# Altium schematic symbol library Limbo.SchLib: 8 symbols
Pins are listed as number, name and electrical type; pins without a type are passive.

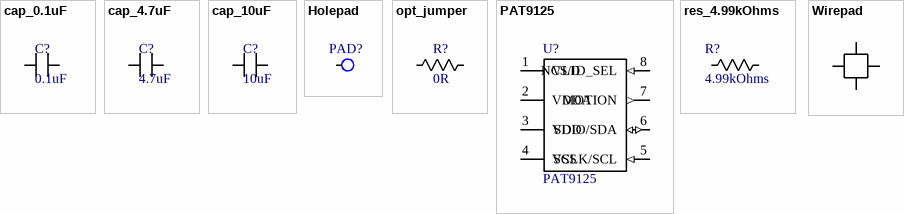
[diagram p0: symbols cap_0.1uF to Wirepad]

## cap_0.1uF
designator C?, comment 0.1uF
0.1µF ±20% 6.3V Ceramic Capacitor X7S 0204 (0510 Metric); MP: JWK105C7104MP-F; MF: Taiyo Yuden; Category 2: Ceramic Capacitors; SnapEDA_Link: https://www.snapeda.com/parts/JWK105C7104MP-F/Taiyo%20Yuden/view-part/554958/?ref=snap; Check_prices: https://www.snapeda.com/parts/JWK105C7104MP-F/Taiyo%20Yuden/view-part/554958/?ref=eda; Value: 0.1uF; Package: 0510 Taiyo Yuden; Digi-Key_Part_Number: 587-2152-1-ND; Purchase-URL: https://pricing.snapeda.com/search/part/JWK105C7104MP-F/?ref=eda; Category: Capacitors
footprint cap_0.1uF
pins: 1, 2

## cap_4.7uF
designator C?, comment 4.7uF
4.7µF ±20% 4V Ceramic Capacitor X6S 0306 (0816 Metric); MP: AWK107C6475MV-T; MF: Taiyo Yuden; Digi-Key_Part_Number: 587-5162-1-ND; Package: 0816 Taiyo Yuden; SnapEDA_Link: https://www.snapeda.com/parts/AWK107C6475MV-T/Taiyo%20Yuden/view-part/2039935/?ref=snap; Purchase-URL: https://pricing.snapeda.com/search/part/AWK107C6475MV-T/?ref=eda; Value: *; Check_prices: https://www.snapeda.com/parts/AWK107C6475MV-T/Taiyo%20Yuden/view-part/2039935/?ref=eda; Category: Capacitor
footprint CAPC0816X55N
pins: 1, 2

## cap_10uF
designator C?, comment 10uF
10µF ±20% 2.5V Ceramic Capacitor X6S 0306 (0816 Metric); MF: Taiyo Yuden; MP: PWK107C6106MV-T; Value: *; Package: 0816 Taiyo Yuden; Check_prices: https://www.snapeda.com/parts/PWK107C6106MV-T/Taiyo%20Yuden/view-part/2037078/?ref=eda; Purchase-URL: https://pricing.snapeda.com/search/part/PWK107C6106MV-T/?ref=eda; SnapEDA_Link: https://www.snapeda.com/parts/PWK107C6106MV-T/Taiyo%20Yuden/view-part/2037078/?ref=snap; Digi-Key_Part_Number: 587-5158-1-ND; Category: Capacitor
footprint CAPC0816X55N
pins: 1, 2

## Holepad
designator PAD?  (value not drawn)
footprint Holepad
pins: 1

## opt_jumper
designator R?, comment 0R
footprint opt_jumper
pins: 1, 2

## PAT9125
designator U?, comment Name: PAT9125  (hidden comment: Optical Navigation Sensor)
Miniature Optical Navigation Chip; HelpURL: https://www.pixart.com/products-detail/72/PAT9125EL-TKIT___TKMT
footprint PAT9125 (LGA, 8-Leads, Body 3.50mmx3.20mmx1.00mm, Pitch 0.80mm)
pins: 1 VLD (power), 2 VDDA (power), 3 VDD (power), 4 VSS (power), 5 SCLK/SCL (in), 6 SDIO/SDA (io), 7 MOTION (out), 8 NCS/ID_SEL (in)

## res_4.99kOhms
designator R?, comment 4.99kOhms
4.99 kΩ resistor; Manufacturer_Part_Number: RC0603F4991CS; Vendor: Samsung; Built_By: EMA_Rocco; SourceLibrary: Samsung_2019-08-29; Copyright: Copyright (C) 2018 Accelerated Designs. All rights reserved; RefDes: RefDes; Type: DEV; Category: Resistors
footprint RES_0603_SAM-L
pins: 1, 2

## Wirepad
designator SMD?  (value not drawn)
SMD pad to solder a wire straight onto the PCB.
footprint Wirepad (5mmx3mm SMD pad)
pins: 1 Q?, 2 Q?, 3 Q?, 4 Q?